# Altium integrated library StrainLogger.IntLib: 25 symbols
Pins are listed as number, name and electrical type; pins without a type are passive.

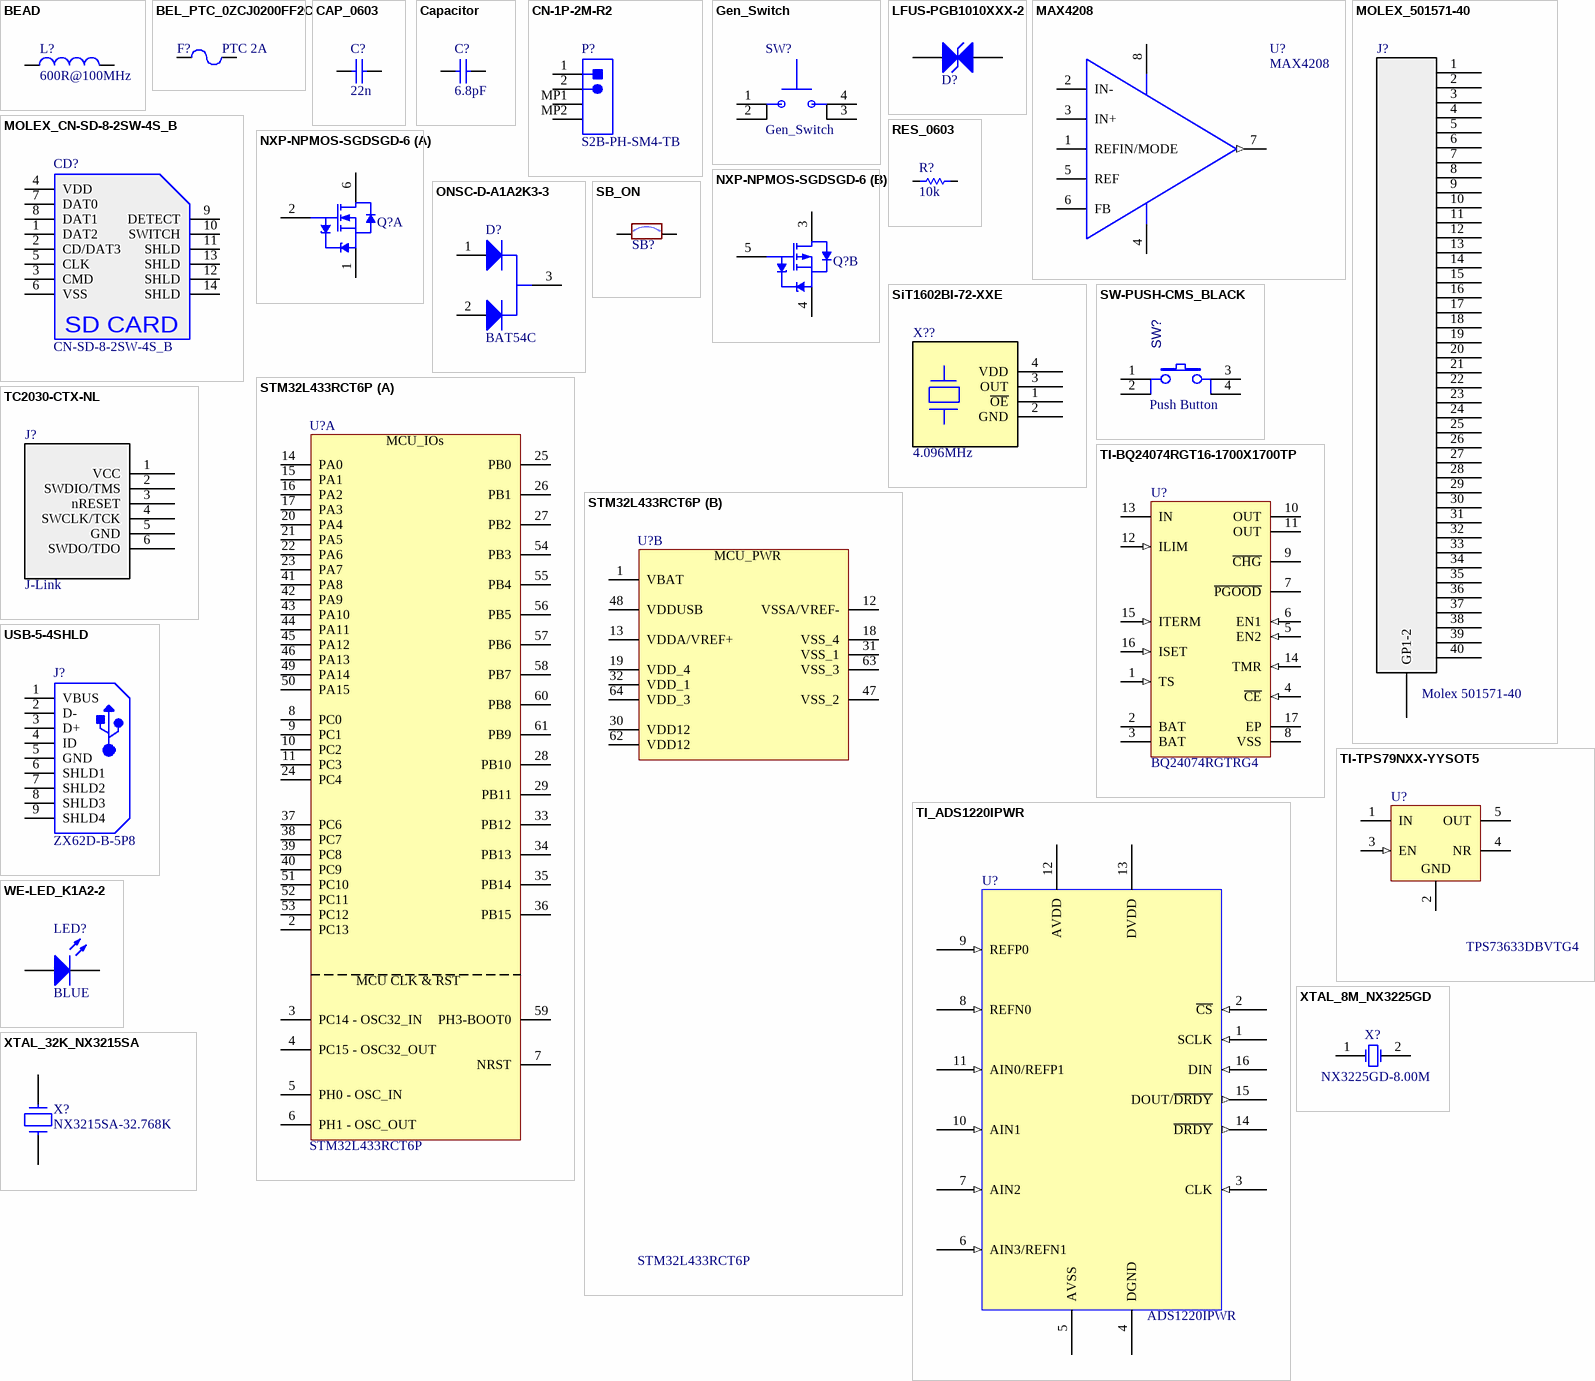
[diagram p0: symbols BEAD to XTAL_32K_NX3215SA]

## BEAD
designator L?  value 600R@100MHz  (hidden comment: BEAD)
SMD Chip ferrite bead, 600R@100MHz +/-25%, 350mA, 500mohm DC, 0603, T=0.8mm; Internal_Part_Number: MCD-00047; Part_Type: Inductor; Manufacturer_Part_Number: FCM1608KF-601T03; Manufacturer: TAI-TECH; Provided_By: Subcon; Initial_Board_Reference: mb1274; Status: Released; ComponentLink1Description: TaiTech_Bead_FCM1608_series.pdf; ComponentLink1URL: http://tunmcdsvn.tun.st.com/Component_Datasheet_Library/Trunk/Inductors/TaiTech_Bead_FCM1608_series.pdf; ECCN_US: n/a; ECCN_EU: n/a
footprint L0603
pins: 1, 2

## BEL_PTC_0ZCJ0200FF2C
designator F?, comment PTC 2A
PTC RESET FUSE 6V 2A 1206
footprint PTC_1206_M (Chip PTC, Body 3.2x1.6mm, Height 1.1mm, IPC Medium Density)
pins: 1, 2

## CAP_0603
designator C?, comment 22n
CAP Cnom Vcap Ptol Dial 0603; Category: capacitor; Created: 2018-07-01; Created By: JS; Last Modified: 2018-07-01
footprint CAP_0603_M (Chip Capacitor, Body 1.6x0.8mm, Height 1.0mm, IPC Medium Density)
pins: 1, 2

## Capacitor
designator C?  value 6.8pF  (hidden comment: Capacitor)
Capacitor, MLCC, 6.8pF, 50V, NPO, +-0.25pF, 0402, T=0.5mm; Internal_Part_Number: MCD-00674; Manufacturer_Part_Number: CC0402CRNPO9BN6R8; Manufacturer: YAGEO; Provided_By: Subcon; Initial_Board_Reference: mb1319; Status: Released; Part_Type: Capacitor; Package: C0402; ComponentLink1Description: Yageo_Capacitor_NP0_16V-to-50V.pdf; ComponentLink1URL: http://tunmcdsvn.tun.st.com/Component_Datasheet_Library/Trunk/Capacitors/Yageo_Capacitor_NP0_16V-to-50V.pdf; ECCN_US: n/a; ECCN_EU: n/a
footprint C0402
pins: 1, 2

## CN-1P-2M-R2
designator P?, comment S2B-PH-SM4-TB
Male Header, Pitch 2 mm, 1 x 2 Position, Height 5.5 mm, -25 to 85 degC, RoHS, Tape and Reel; Current Rating: 3 A; ComponentLink1URL: http://www.jst.com/home2.html; Radiation Hardening: No; RoHSCompliant: True; Mount: Through Hole; Contact Material: Bronze; Package Quantity: 100; Width: 2.34 mm; DatasheetVersion: Dec-12; Height: 8.13 mm; Max Operating Temperature: 105degC; ComponentLink2Description: Datasheet; Lead Pitch: 0.1 inch; Contact Finish: Lead; Packaging: Bulk; Colour: Black; Contact Plating: Tin; Min Operating Temperature: -65degC; ComponentLink1Description: Manufacturer URL; PackageReference: S2B-PH-SM4-TB(LF)(SN)-2; PackageDescription: Male Header, Pitch 2 mm, 1 x 2 Position, Height 5.5 mm; ComponentLink2URL: http://www.jst-mfg.com/product/pdf/eng/ePH.pdf; Pins: 40; Length: 101.19 mm
footprint JST- S2B-PH-SM4-TB(LF)(SN)-2_V (SMD, 2-Leads, Body 7.9x7.6mm, Pitch 2mm)
pins: 1, 2, MP1, MP2

## Gen_Switch
designator SW?
footprint PCBComponent_1
pins: 1, 2, 3, 4

## LFUS-PGB1010XXX-2
designator D?, comment PGB1010402KR  (value not drawn)
Polymeric ESD Suppressor, 12 V, -65 to 125 degC, 2-Pin SMD, RoHS, Tape and Reel; Manufacturer: Littelfuse; Reverse Stand-off Voltage: 12V; Configuration: Single; Product Height (mm): 0.36mm; Product Length (mm): 1.66mm; Clamping Voltage (Max): 250V(Typ); Direction Type: Bi-Directional; Number of Elements: 1; Leakage Current: 0.001uA; Rad Hardened: No; Product Depth (mm): 0.84mm; Capacitance Value: 0.04pF; Operating Temp Range: -65Cto125C; Operating Temperature Max Deg. C: 125C; Datasheet Version: May-09; Manufacturer URL: http://www.littelfuse.com/; Packaging: TapeandReel; Package / Case: SMD; Working Voltage (Max): 12V; Operating Temperature Min Deg. C: -65C; Mounting Style: SurfaceMount; Datasheet URL: https://datasheet.ciiva.com/5837/575761-5837954.pdf; Operating Temperature Classification: Military; Pin Count: 2; Mounting: SurfaceMount; Leakage Current (Max): 0.001uA; Clamping Voltage: 250V(Typ); Suppressor Type: Polymer; Polarity: Bi-Directional; Working Voltage: 12V
footprint LFUS-PGB1010402KR-2_V (SMD, 2-Leads, Body 1.04x0.56mm)
pins: 1 A1, 2 A2

## MAX4208
designator U?
Manufacturer: Maxim; Manufacturer PN: MAX4208
footprint MAX4208_SOP127P600-8N
pins: 1 REFIN/MODE, 2 IN-, 3 IN+, 4 V- (power), 5 REF, 6 FB, 7 VO (out), 8 V+ (power)

## MOLEX_501571-40
designator J?, comment Molex 501571-40
Conn right angle 40pos 1mm pitch; Manufacturer PN: 501571-40; Manufacturer: Molex
footprint MOLEX_501571-40 (Conn right angle 40pos 1mm pitch)
pins: 1, 2, 3, 4, 5, 6, 7, 8, 9, 10, 11, 12, 13, 14, 15, 16, 17, 18, 19, 20, 21, 22, 23, 24, 25, 26, 27, 28, 29, 30, 31, 32, 33, 34, 35, 36, 37, 38, 39, 40, GP1 GP1-2, GP2

## MOLEX_CN-SD-8-2SW-4S_B
designator CD?, comment CN-SD-8-2SW-4S_B
Manufacturer PN: 502774-0891_V; Manufacturer: Molex
footprint MOLX-502774-0891_V (SMD, 14-Leads, Body 15x14.3mm, Pitch 1.1mm)
pins: 1 DAT2, 2 CD/DAT3, 3 CMD, 4 VDD, 5 CLK, 6 VSS, 7 DAT0, 8 DAT1, 9 DETECT, 10 SWITCH, 11 SHLD, 12 SHLD, 13 SHLD, 14 SHLD
text: SD CARD

## NXP-NPMOS-SGDSGD-6
designator Q?  (value not drawn)
N/P-Channel Mosfet 30V, 2.5A/-1.8A; Manufacturer: Vishay; Rds_N: 85mOhm; Rds_P: 165mOhm; Vgs(th): 1V; Manufacturer PN: NXP-NPMOS-SGDSGD-6; Vmax: 30V
footprint NXP-SOT363_M (SOT23, 6-Leads, Body 2.2x1.35mm, Pitch 0.65mm, IPC Low Density)
part A pins: 1 S1 "source TR1", 2 G1 "gate TR1", 6 D1 "drain TR1"
part B pins: 3 D2 "drain TR2", 4 S2 "source TR2", 5 G2 "gate TR2"

## ONSC-D-A1A2K3-3
designator D?, comment BAT54C
footprint ONSC-SC-75-3-463-01_V (SOT23, 3-Leads, Body 1.6x0.8mm, Pitch 0.5mm)
pins: 1 A1, 2 A2, 3 K

## RES_0603
designator R?, comment 10k
RES OPT 1/5W 0603; Manufacturer: *; Manufacturer PN: *; Category: resistor; Created: 2018-07-01; Last Modified: 2018-07-01; Created By: JS
footprint RES_0603_M (Chip Resistor, Body 0.6x0.3mm, IPC Medium Density)
pins: 1, 2

## SB_ON
designator SB?  (value not drawn)
Solder Bridge ON; Internal_Part_Number: MCD-00071; Part_Type: Mechanical; Provided_By: Subcon; Initial_Board_Reference: mb1274; ECCN_US: n/a; ECCN_EU: n/a; Status: Released
footprint SOLDER-BRIDGE_R0603-0R
pins: 1, 2

## SiT1602BI-72-XXE
designator X??, comment 4.096MHz
OSC MEMS 4.0960MHZ LVCMOS SMD 25ppm; Manufacturer: SiTIME; Manufacturer PN: SIT1602BI-72-XXE-4.096000G
pins: 1 ~{OE}, 2 GND, 3 OUT, 4 VDD

## STM32L433RCT6P
designator U?
Little ORCA 256_STM32L433P External SMPS configuration. LQFP64 package; Internal_Part_Number: MCD-00548; Part_Type: IC; Manufacturer: STMICROELECTRONICS; ECCN_US: 3A991A2; ECCN_EU: NEC; Provided_By: STM; Initial_Board_Reference: mb1319; Status: Symbol available; Manufacturer_Part_Number: STM32L433RCT6P; Value: STM32L433RCT6P
footprint ICC_LQFP64_10X10_P050
part A pins: 2 PC13, 3 PC14 - OSC32_IN, 4 PC15 - OSC32_OUT, 5 PH0 - OSC_IN, 6 PH1 - OSC_OUT, 7 NRST, 8 PC0, 9 PC1, 10 PC2, 11 PC3, 14 PA0, 15 PA1, 16 PA2, 17 PA3, 20 PA4, 21 PA5, 22 PA6, 23 PA7, 24 PC4, 25 PB0, 26 PB1, 27 PB2, 28 PB10, 29 PB11, 33 PB12, 34 PB13, 35 PB14, 36 PB15, 37 PC6, 38 PC7, 39 PC8, 40 PC9, 41 PA8, 42 PA9, 43 PA10, 44 PA11, 45 PA12, 46 PA13, 49 PA14, 50 PA15, 51 PC10, 52 PC11, 53 PC12, 54 PB3, 55 PB4, 56 PB5, 57 PB6, 58 PB7, 59 PH3-BOOT0, 60 PB8, 61 PB9
part B pins: 1 VBAT, 12 VSSA/VREF-, 13 VDDA/VREF+, 18 VSS_4, 19 VDD_4, 30 VDD12, 31 VSS_1, 32 VDD_1, 47 VSS_2, 48 VDDUSB, 62 VDD12, 63 VSS_3, 64 VDD_3
part A text: MCU_IOs; MCU CLK & RST
part B text: MCU_PWR

## SW-PUSH-CMS_BLACK
designator SW?  value Push Button  (hidden comment: SW-PUSH-CMS_BLACK)
Non-Open Push-Button 0.1A 24V; Internal_Part_Number: MCD-00001; Manufacturer_Part_Number: TD0341X-G01-BLA; Manufacturer: WEALTHMETAL; Alternate_Manufacturer_Part_Number: 535-930; Alternate_Manufacturer: FARNELL; Part_Type: Misc; Provided_By: Subcon; Initial_Board_Reference: mb1274; ECCN_US: n/a; ECCN_EU: n/a; ComponentLink1Description: Wealthmetal_Tact-Switch_TD0341.pdf; Status: Released
footprint SWI_WEALTHMETAL_TD-0341_4P_BLACK
pins: 1, 2, 3, 4

## TC2030-CTX-NL
designator J?, comment J-Link
footprint TC2030-MCP-NL_R2
pins: 1 VCC, 2 SWDIO/TMS, 3 nRESET, 4 SWCLK/TCK, 5 GND, 6 SWDO/TDO

## TI-BQ24074RGT16-1700X1700TP
designator U?, comment BQ24074RGTRG4
USB-Friendly Li-Ion Battery Charger and Power-Path Management IC, 10.5 V OVP, 4.3 V, -40 to 85 degC, 16-pin QFN (RGT), Green (RoHS & no Sb/Br); Manufacturer: Texas Instruments; SubFamily: Battery Charge Management; Vin(Min)(V): 4.3; Li-Ion: N; PartNumber: BQ24074RGTRG4; ComponentLink1Description: Datasheet; DatasheetVersion: SLUS810G; ComponentLink1URL: http://www.ti.com/general/docs/lit/getliterature.tsp?genericPartNumber=BQ24074&fileType=pdf; Li-Polymer: N; Code_JEDEC: MO-220; Mounting Technology: Surface Mount; PackageDescription: 16-Pin Plastic Quad Flat No-Lead, 3 x 3 mm Body, 0.5 mm Pitch, 1.7 x 1.7 mm Exposed Pad; Over Voltage Protection: N; NiCd: N; PackageVersion: revH, Oct-2011; PackageReference: RGT16-1700X1700TP; NiMH: N; Lead Acid: N; Eco-Plan: Green (RoHS & no Sb/Br)
footprint RGT16-1700X1700TP (QFN, 16-Leads, Body 3x3mm, Pitch 0.5mm, Thermal Pad 1.7x1.7mm, TI Recommended)
pins: 1 TS (in) "External NTC Thermistor Input. Connect the TS input to the NTC thermistor in the battery pack. TS monitors a 10-k ohm NTC thermistor. For applications that do not utilize the TS function, connect a 10-k ohm fixed resistor (See Datasheet)", 2 BAT (power) "Charger Power Stage Output and Battery Voltage Sense Input. Connect BAT to the positive terminal of the battery. Bypass BAT to VSS with a 4.7-uF to 47-uF ceramic capacitor.", 3 BAT (power) "Charger Power Stage Output and Battery Voltage Sense Input. Connect BAT to the positive terminal of the battery. Bypass BAT to VSS with a 4.7-uF to 47-uF ceramic capacitor.", 4 ~{CE} (in) "Charge Enable Active-Low Input. Connect C\E\ to a high logic level to place the battery charger in standby mode. In standby mode, OUT is active and battery supplement mode is still available. Connect C\E\ to a low logic (See Datasheet)", 5 EN2 (in) "Input Current Limit Configuration Inputs. Use EN1 and EN2 control the maximum input current and enable USB compliance. See Table 2 for the description of the operation states. EN1 and EN2 are internally pulled down with ~285 (See Datasheet)", 6 EN1 (in) "Input Current Limit Configuration Inputs. Use EN1 and EN2 control the maximum input current and enable USB compliance. See Table 2 for the description of the operation states. EN1 and EN2 are internally pulled down with ~285 (See Datasheet)", 7 ~{PGOOD} (hiz) "Open-drain Power Good Status Indication Output. P\G\O\O\D\ pulls to VSS when a valid input source is detected. P\G\O\O\D\ is high-impedance when the input power is not within specified limits. Connect P\G\O\O\D\ to the (See Datasheet)", 8 VSS (power) "Ground. Connect to the thermal pad and to the ground rail of the circuit.", 9 ~{CHG} (hiz) "Open-Drain Charging Status Indication Output. C\H\G\ pulls to VSS when the battery is charging. C\H\G\ is high impedance when charging is complete and when charger is disabled. Connect C\H\G\ to the desired logic voltage (See Datasheet)", 10 OUT (power) "System Supply Output. OUT provides a regulated output when the input is below the OVP threshold and above the regulation voltage. Connect OUT to the system load. Bypass OUT to VSS with a 4.7-uF to 47-uF ceramic capacitor.", 11 OUT (power) "System Supply Output. OUT provides a regulated output when the input is below the OVP threshold and above the regulation voltage. Connect OUT to the system load. Bypass OUT to VSS with a 4.7-uF to 47-uF ceramic capacitor.", 12 ILIM (in) "Adjustable Current Limit Programming Input. Connect a 3.1-k ohm to 7.8-k ohm resistor from ILIM to VSS to program the maximum input current (EN2=1, EN1=0). The input current includes the system load and the battery charge (See Datasheet)", 13 IN (power) "Input Power Connection. Connect IN to the connected to external DC supply (AC adapter or USB port). The input operating range is 4.35 V to 10.5 V. (bq24074).The input can accept voltages up to 26 V without damage but (See Datasheet)", 14 TMR (in) "Timer Programming Input. TMR controls the precharge and fast-charge safety timers. Connect TMR to VSS to disable all safety timers. Connect a 18-k ohm to 72-k ohm resistor between TMR and VSS to program the timers a desired (See Datasheet)", 15 ITERM (in) "Termination Current Programming Input. Connect a 0 ohm to 15 k ohm resistor from ITERM to VSS to program the termination current. Leave ITERM unconnected to set the termination current to the default 10% termination threshold", 16 ISET (in) "Fast-Charge Current Programming Input. Connect a 3-k ohm to 36-k ohm resistor from ISET to VSS to program the fast-charge current level. Charging is disabled if ISET is left unconnected. While charging, the voltage at ISET (See Datasheet)", 17 EP (power) "There is an internal electrical connection exists between the exposed thermal pad and the VSS pin of the device. The thermal pad must be connected to the same potential as the VSS pin on the printed-circuit board. Do not use (See Datasheet)"

## TI-TPS79NXX-YYSOT5
designator U?, comment TPS73633DBVTG4
Single Output Low Noise LDO, 400 mA, Fixed 3.3 V Output, 1.7 to 5.5 V Input, with Reverse Current Protection, 5-pin SOT-23 (DBV), -40 to 85 degC, Green (RoHS & no Sb/Br); Manufacturer: Texas Instruments; Vdo(Typ)(mV): 75; Vout Adj(Min)(V): 3.3; Rating: Catalog; Vin(Min)(V): 1.7; Iout(Max)(A): 0.4; Vin(Max)(V): 5.5; Iq(Typ)(mA): 0.3; SubFamily: Single Channel LDO; Accuracy(%): 1; ComponentLink2URL: http://www.ti.com/general/docs/lit/getliterature.tsp?genericPartNumber=TPS73633&fileType=pdf; ComponentLink1URL: http://www.ti.com/; ComponentLink2Description: Datasheet; DatasheetVersion: SBVS038T; Mounting Technology: Surface Mount; Fixed Output Options(V): 3.3; ComponentLink3Description: Package Specification; ComponentLink3URL: http://www.ti.com/litv/pdf/mpds018i; ComponentLink4Description: URL Link1; PackageReference: DBV5; ComponentLink4URL: Samples URL:http://www.ti.com/product/tps73633#samples; Vout Adj(Max)(V): 3.3; Eco-Plan: Green (RoHS & no Sb/Br); PackageVersion: 4073253-4/K; PackageDescription: 5-Pin Plastic Small Outline, Body 1.60 Ãƒâ€” 2.90 mm, Pitch 0.95 mm; ComponentLink1Description: Manufacturer URL; Code_JEDEC: MO-178; PartNumber: TPS73633DBVTG4
footprint TI-DBV5_M (SOT23, 5-Leads, Body 2.9x1.6mm, Pitch 0.95mm, IPC Low Density)
footprint TI-DBV5_L (SOT23, 5-Leads, Body 2.9x1.6mm, Pitch 0.95mm, IPC High Density)
footprint TI-DBV5_N (SOT23, 5-Leads, Body 2.9x1.6mm, Pitch 0.95mm, IPC Medium Density)
pins: 1 IN (power) "Input supply.", 2 GND (power) "Ground.", 3 EN (in) "Driving the enable pin (EN) high turns on the regulator .Driving this pin low puts the regulator into shutdown mode.EN can be connected to IN if not used.", 4 NR "Fixed voltage versions only; connecting an external capacitor to this pin bypasses noise generated by the internal bandgap. This capacitor allows output noise to be reduced to very low levels.", 5 OUT (power) "Output for the regulator. A small capacitor (total typical capacitance >= 2.0uF ceramic) is needed from this pin to ground to assure stability."

## TI_ADS1220IPWR
designator U?, comment ADS1220IPWR
ADS1220 4-Channel, 2-kSPS, Low-Power, 24-Bit ADC with Integrated PGA and Reference; Manufacturer: TI; Manufacturer PN: ADS1220IPWR
footprint TI_PW_SOP127P600-8N
pins: 1 SCLK (in), 2 ~{CS} (in), 3 CLK (in), 4 DGND (power), 5 AVSS (power), 6 AIN3/REFN1 (in), 7 AIN2 (in), 8 REFN0 (in), 9 REFP0 (in), 10 AIN1 (in), 11 AIN0/REFP1 (in), 12 AVDD (power), 13 DVDD (power), 14 ~{DRDY} (out), 15 DOUT/~{DRDY} (out), 16 DIN (in)

## USB-5-4SHLD
designator J?, comment ZX62D-B-5P8
Right Angle Receptacle Connector, Micro USB, 30 V(AC), -30 to 85 degC, 5-Pin SMD, RoHS, Tape and Reel; Capacitance: 1 uF; Tolerance: 10%; ESR: 7.5 Ohm; Voltage Rating: 35 V; PackageDescription: USB Connector, 5 Position Surface Mount, Length 8 mm, Height 2.65 mm; DatasheetVersion: Aug-16; REACH SVHC: No SVHC; Package Quantity: 2000; ComponentLink1Description: Manufacturer URL; ComponentLink2URL: https://www.hirose.com/product/en/download_file/key_name/ZX62D-B-5P8/category/Catalog/doc_file_id/31704/?file_category_id=5&item_id=02420034000&is_series=; Length: 3.2 mm; ComponentLink1URL: https://www.hirose.com; Radiation Hardening: No; Height: 1.8 mm; Max Operating Temperature: 125degC; Weight: 0.000571 oz; Min Operating Temperature: -55degC; ComponentLink3Description: Package Specification; Width: 1.6 mm; Case Code (Metric): 3216; Mount: Surface Mount; ComponentLink2Description: Datasheet; Case Code (Imperial): 1206; ComponentLink3URL: https://www.hirose.com/product/en/download_file/key_name/ZX62D-B-5P8/category/Drawing%20(2D)/doc_file_id/36535/?file_category_id=6&item_id=02420034000&is_series=; Pins: 2; Resistance: 7.5 Ohm; Packaging: Tape and Reel; RoHSCompliant: True; Voltage Rating (DC): 35 V; Case/Package: 1206; PackageReference: ZX62D-B-5P8
footprint HIRO-ZX62D-B-5P8_V (Micro-USB Connector, 9-Leads, Body 7.5x5.6mm, Pitch 0.65mm)
pins: 1 VBUS, 2 D-, 3 D+, 4 ID, 5 GND, 6 SHLD1, 7 SHLD2, 8 SHLD3, 9 SHLD4

## WE-LED_K1A2-2
designator LED?, comment BLUE
SMD mono-color Chip LED, WL-SMCW, Yellow; PartNumber: 150060YS75000; Manufacturer: Wuerth Elektronik; ComponentLink1URL: http://www.we-online.com; Color: Yellow; ComponentLink2Description: Datasheet; ComponentLink2URL: http://katalog.we-online.com/led/datasheet/150060YS75000.pdf; ComponentLink1Description: Manufacturer URL; PackageReference: 0603_A
footprint 0603_A (Chip LED, 2-Leads, Body 1.6x0.8mm, IPC Medium Density)
pins: 1 K, 2 A

## XTAL_8M_NX3225GD
designator X?  value NX3225GD-8.00M  (hidden comment: XTAL_8M_NX3225GD)
Crystal 8Mhz, 8pF, -+50PPM, SMD; Internal_Part_Number: MCD-00092; Manufacturer_Part_Number: NX3225GD 8MHz EXS00A-CG04874; Manufacturer: NDK; Part_Type: Crystal_Osc; ECCN_US: EAR99; ECCN_EU: NEC; Provided_By: STM; Initial_Board_Reference: mb1274; ComponentLink1Description: NDK_Crystal-For-ST_NX3225GD 8MHz EXS00A-CG04874 (EXS10B-20725).pdf; Status: Released
footprint CRY_NX3225GD_2P
pins: 1 OSC1, 2 OSC2
2 alternate drawings of the same symbol

## XTAL_32K_NX3215SA
designator X?  value NX3215SA-32.768K  (hidden comment: XTAL_32K_NX3215SA)
Crystal 32.768kHz, 6pF, -+20PPM, R=50K, SMD; Internal_Part_Number: MCD-00091; Manufacturer_Part_Number: NX3215SA 32.768KHz EXS00A-MU00525; Manufacturer: NDK; Part_Type: Crystal_Osc; ECCN_US: EAR99; ECCN_EU: NEC; Provided_By: STM; Initial_Board_Reference: mb1274; ComponentLink1Description: NDK_Crystal-For-ST_NX3215SA 32.768KHz EXS00A-MU00525 (EXS10B-21238).pdf; Status: Released
footprint CRY_NX3215SA_2P
pins: 1, 2
2 alternate drawings of the same symbol